# EAGLE library part PAM8403 (library MyComponents)
Class-D stereo audio power amplifier (3W)
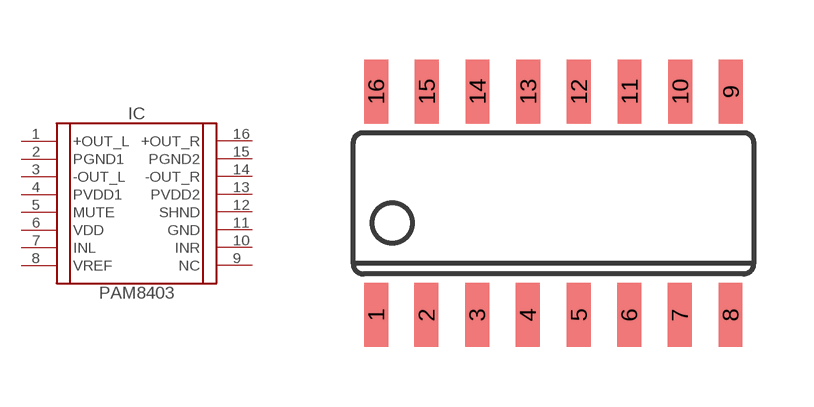
[diagram p6: symbol with the pads of SOP-16; footprint SOP-16]

Designator prefix IC

## PAM8403  [SOP-16]
1  +OUT_L
2  PGND1
3  -OUT_L
4  PVDD1
5  MUTE
6  VDD
7  INL
8  VREF
9  NC
10  INR
11  GND
12  SHND
13  PVDD2
14  -OUT_R
15  PGND2
16  +OUT_R

## Footprint SOP-16 (pad centres in mm)
Small Outline Package
smd 0.6 x 1.6: 1 -4.445,-2.8; 2 -3.185,-2.8; 3 -1.915,-2.8; 4 -0.645,-2.8; 5 0.635,-2.8; 6 1.895,-2.8; 7 3.165,-2.8; 8 4.435,-2.8; 9 4.445,2.8; 10 3.175,2.8; 11 1.905,2.8; 12 0.635,2.8; 13 -0.635,2.8; 14 -1.905,2.8; 15 -3.175,2.8; 16 -4.445,2.8